# EAGLE library part DS4E-?* (library relay)
DS-RELAYS HIGHLY SENSITIVE 1500 V FCC SURGE NAiS WITHSTANDING MINIATURE RELAY Source: http://www.mew-europe.com/.. en_ds_61005_0001.pdf
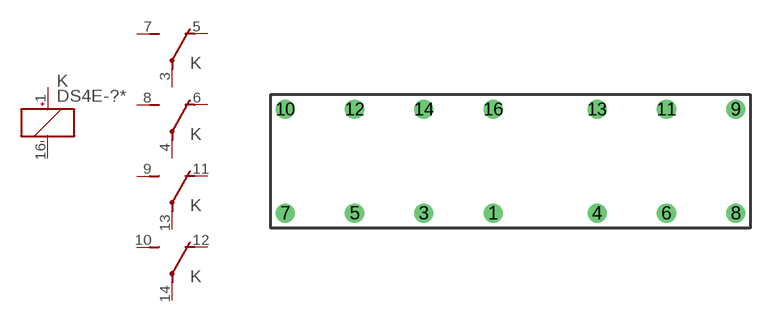
[diagram p73: symbol with the pads of DS4E; footprint DS4E]

Designator prefix K; gates 1=K+- 2=U 3=U 4=U 5=U

## DS4E-1.5V (OC_FARNELL: unknown; OC_NEWARK: unknown), DS4E-12V (OC_FARNELL: unknown; OC_NEWARK: unknown), DS4E-24V (OC_FARNELL: unknown; OC_NEWARK: unknown), DS4E-3V (OC_FARNELL: unknown; OC_NEWARK: unknown), DS4E-48 (OC_FARNELL: unknown; OC_NEWARK: unknown), DS4E-5V (OC_FARNELL: unknown; OC_NEWARK: unknown), DS4E-6V (OC_FARNELL: unknown; OC_NEWARK: unknown), DS4E-9V (OC_FARNELL: unknown; OC_NEWARK: unknown)  [DS4E]
1  1:+  pas
3  2:P  pas
4  3:P  pas
5  2:O  pas
6  3:O  pas
7  2:S  pas
8  3:S  pas
9  4:S  pas
10  5:S  pas
11  4:O  pas
12  5:O  pas
13  4:P  pas
14  5:P  pas
16  1:-  pas

## DS4E-L-1.5V (OC_FARNELL: unknown; OC_NEWARK: unknown), DS4E-L-12V (OC_FARNELL: unknown; OC_NEWARK: unknown), DS4E-L-24V (OC_FARNELL: unknown; OC_NEWARK: unknown), DS4E-L-3V (OC_FARNELL: unknown; OC_NEWARK: unknown), DS4E-L-48V (OC_FARNELL: unknown; OC_NEWARK: unknown), DS4E-L-5V (OC_FARNELL: unknown; OC_NEWARK: unknown), DS4E-L-6V (OC_FARNELL: unknown; OC_NEWARK: unknown), DS4E-L-9V (OC_FARNELL: unknown; OC_NEWARK: unknown)  [DS4E]
Pads as for DS4E

## Footprint DS4E (pad centres in mm)
DS-RELAYS HIGHLY SENSITIVE 1500 V FCC SURGE WITHSTANDING MINIATURE RELAY Source: http://www.mew-europe.com/.. en_ds_61005_0001.pdf
drill 0.9: 1 -1.27,-3.81; 3 -6.35,-3.81; 4 6.35,-3.81; 5 -11.43,-3.81; 6 11.43,-3.81; 7 -16.51,-3.81; 8 16.51,-3.81; 9 16.51,3.81; 10 -16.51,3.81; 11 11.43,3.81; 12 -11.43,3.81; 13 6.35,3.81; 14 -6.35,3.81; 16 -1.27,3.81